# Altium schematic symbol library SCH - CONNECTORS - WE 629105150921.Schlib: 1 symbol
Pins are listed as number, name and electrical type; pins without a type are passive.

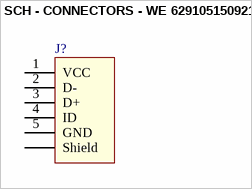
[diagram p0: symbol SCH - CONNECTORS - WE 629105150921]

## SCH - CONNECTORS - WE 629105150921
designator J?
footprint 629105150921 (Micro USB 2.0 Type AB Horizontal)
pins: 1 VCC, 2 D-, 3 D+, 4 ID, 5 GND, Shell Shield